# Altium schematic symbol library kmilo17pet-TI_LDO_400_7500.SchLib: 1409 symbols (part 13 of 60)
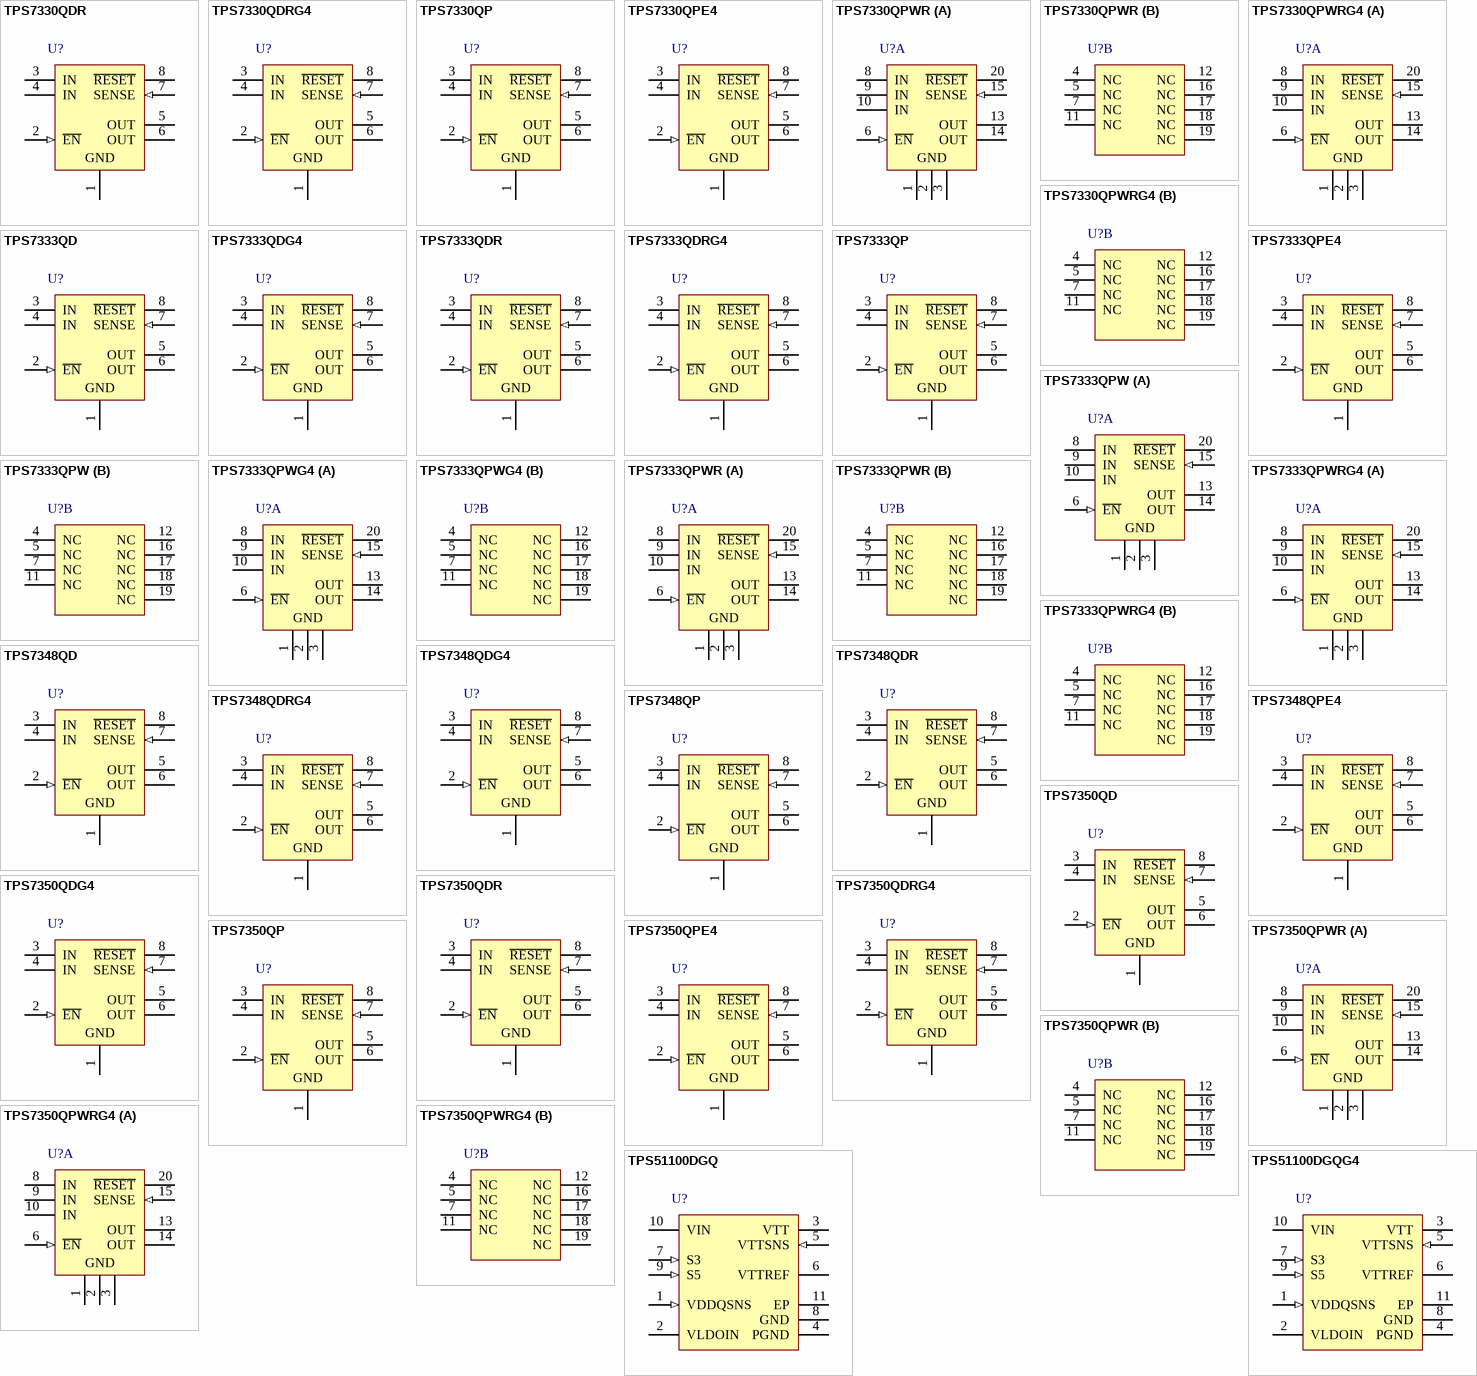
[diagram p62: symbols TPS7330QDR to TPS51100DGQG4]

## TPS7333QDRG4
designator U?
Single Output LDO, 500 mA, Fixed 3.3 V Output, 3.77 to 10 V Input, with Integrated SVS, 8-pin SOIC (D), -40 to 125 degC, Green (RoHS & no Sb/Br); Manufacturer: Texas Instruments; PartNumber: TPS7333QDRG4; Accuracy(%): 2; Fixed Output Options(V): 3.3; Iout(Max)(A): 0.5; Iq(Typ)(mA): 0.3; SubFamily: Single Channel LDO; Vdo(Typ)(mV): 270; Vin(Max)(V): 10; Vin(Min)(V): 3.77; DatasheetVersion: SLVS124F; PackageVersion: 4040047-3/M; PackageReference: D8; PackageDescription: 8-Pin Plastic Small Outline, Body 4.9 x 3.9 mm, Pitch 1.27 mm; Supplier 1: Digi-Key; Supplier Part Number 1: TPS7333QDRG4-ND; Supplier 2: Newark; Supplier Part Number 2: 28K5747; Supplier 3: Mouser; Supplier Part Number 3: 595-TPS7333QDRG4; Eco-Plan: Green (RoHS & no Sb/Br); Vout Adj(Max)(V): 3.3; Vout Adj(Min)(V): 3.3; Mounting Technology: Surface Mount; Code_JEDEC: MS-012; ComponentLink1Description: Manufacturer URL; ComponentLink1URL: http://www.ti.com/; ComponentLink2Description: Datasheet; ComponentLink2URL: http://www.ti.com/general/docs/lit/getliterature.tsp?genericPartNumber=TPS7333&fileType=pdf; ComponentLink3Description: Package Specification; ComponentLink3URL: http://www.ti.com/litv/pdf/msoi002j
footprint TI-D8_N (SOIC, 8-Leads, Body 4.9x3.9mm, Pitch 1.27mm, IPC Medium Density)
footprint TI-D8_L (SOIC, 8-Leads, Body 4.9x3.9mm, Pitch 1.27mm, IPC High Density)
footprint TI-D8_M (SOIC, 8-Leads, Body 4.9x3.9mm, Pitch 1.27mm, IPC Low Density)
pins: 1 GND (power), 2 ~{EN} (in), 3 IN (power), 4 IN (power), 5 OUT (power), 6 OUT (power), 7 SENSE (in), 8 ~{RESET} (oc)

## TPS7333QP
designator U?
Single Output LDO, 500 mA, Fixed 3.3 V Output, 3.77 to 10 V Input, with Integrated SVS, 8-pin PDIP (P), -40 to 125 degC, Pb-Free (RoHS); Manufacturer: Texas Instruments; PartNumber: TPS7333QP; Accuracy(%): 2; Fixed Output Options(V): 3.3; Iout(Max)(A): 0.5; Iq(Typ)(mA): 0.3; SubFamily: Single Channel LDO; Vdo(Typ)(mV): 270; Vin(Max)(V): 10; Vin(Min)(V): 3.77; DatasheetVersion: SLVS124F; PackageVersion: 4040082/E; PackageReference: P8; PackageDescription: 8-Pin Plastic In-Line, Body 9.59 x 6.35 mm, 2.54 mm Pitch; Supplier 1: Digi-Key; Supplier Part Number 1: 296-2663-5-ND; Supplier 2: Newark; Supplier Part Number 2: 35K1340; Supplier 3: Mouser; Supplier Part Number 3: 595-TPS7333QP; Eco-Plan: Pb-Free (RoHS); Vout Adj(Max)(V): 3.3; Vout Adj(Min)(V): 3.3; Mounting Technology: Through Hole; Code_JEDEC: MS-001; ComponentLink1Description: Manufacturer URL; ComponentLink1URL: http://www.ti.com/; ComponentLink2Description: Datasheet; ComponentLink2URL: http://www.ti.com/general/docs/lit/getliterature.tsp?genericPartNumber=TPS7333&fileType=pdf; ComponentLink3Description: Package Specification; ComponentLink3URL: http://www.ti.com/litv/pdf/mpdi001b
footprint TI-P8 (DIP, 8-Leads, Body 9.59x6.35mm, Pitch 2.54mm)
pins: 1 GND (power), 2 ~{EN} (in), 3 IN (power), 4 IN (power), 5 OUT (power), 6 OUT (power), 7 SENSE (in), 8 ~{RESET} (hiz)

## TPS7333QPE4
designator U?
Single Output LDO, 500 mA, Fixed 3.3 V Output, 3.77 to 10 V Input, with Integrated SVS, 8-pin PDIP (P), -40 to 125 degC, Pb-Free (RoHS); Manufacturer: Texas Instruments; PartNumber: TPS7333QPE4; Accuracy(%): 2; Fixed Output Options(V): 3.3; Iout(Max)(A): 0.5; Iq(Typ)(mA): 0.3; SubFamily: Single Channel LDO; Vdo(Typ)(mV): 270; Vin(Max)(V): 10; Vin(Min)(V): 3.77; DatasheetVersion: SLVS124F; PackageVersion: 4040082/E; PackageReference: P8; PackageDescription: 8-Pin Plastic In-Line, Body 9.59 x 6.35 mm, 2.54 mm Pitch; Supplier 1: Digi-Key; Supplier Part Number 1: TPS7333QPE4-ND; Supplier 2: Newark; Supplier Part Number 2: 24K6125; Supplier 3: Mouser; Supplier Part Number 3: 595-TPS7333QPE4; Eco-Plan: Pb-Free (RoHS); Vout Adj(Max)(V): 3.3; Vout Adj(Min)(V): 3.3; Mounting Technology: Through Hole; Code_JEDEC: MS-001; ComponentLink1Description: Manufacturer URL; ComponentLink1URL: http://www.ti.com/; ComponentLink2Description: Datasheet; ComponentLink2URL: http://www.ti.com/general/docs/lit/getliterature.tsp?genericPartNumber=TPS7333&fileType=pdf; ComponentLink3Description: Package Specification; ComponentLink3URL: http://www.ti.com/litv/pdf/mpdi001b
footprint TI-P8 (DIP, 8-Leads, Body 9.59x6.35mm, Pitch 2.54mm)
pins: 1 GND (power), 2 ~{EN} (in), 3 IN (power), 4 IN (power), 5 OUT (power), 6 OUT (power), 7 SENSE (in), 8 ~{RESET} (hiz)

## TPS7333QPW
designator U?
Single Output LDO, 500 mA, Fixed 3.3 V Output, 3.77 to 10 V Input, with Integrated SVS, 20-pin TSSOP (PW), -40 to 125 degC, Green (RoHS & no Sb/Br); Manufacturer: Texas Instruments; PartNumber: TPS7333QPW; Accuracy(%): 2; Fixed Output Options(V): 3.3; Iout(Max)(A): 0.5; Iq(Typ)(mA): 0.3; SubFamily: Single Channel LDO; Vdo(Typ)(mV): 270; Vin(Max)(V): 10; Vin(Min)(V): 3.77; DatasheetVersion: SLVS124F; PackageVersion: 4040064-5/G; PackageReference: PW20; PackageDescription: 20-Pin Plastic Small Outline, Body 6.5 x 4.4 mm, 0.65 mm Pitch; Supplier 1: Digi-Key; Supplier Part Number 1: 296-34647-5-ND; Supplier 2: Mouser; Supplier Part Number 2: 595-TPS7333QPW; Eco-Plan: Green (RoHS & no Sb/Br); Vout Adj(Max)(V): 3.3; Vout Adj(Min)(V): 3.3; Mounting Technology: Surface Mount; Code_JEDEC: MO-153; ComponentLink1Description: Manufacturer URL; ComponentLink1URL: http://www.ti.com/; ComponentLink2Description: Datasheet; ComponentLink2URL: http://www.ti.com/general/docs/lit/getliterature.tsp?genericPartNumber=TPS7333&fileType=pdf; ComponentLink3Description: Package Specification; ComponentLink3URL: http://www.ti.com.cn/cn/lit/ml/mpds362/mpds362.pdf
footprint TI-PW20_N (SOP, 20-Leads, Body 6.5x4.4mm, Pitch 0.65mm, IPC Medium Density)
footprint TI-PW20_L (SOP, 20-Leads, Body 6.5x4.4mm, Pitch 0.65mm, IPC High Density)
footprint TI-PW20_M (SOP, 20-Leads, Body 6.5x4.4mm, Pitch 0.65mm, IPC Low Density)
part A pins: 1 GND (power), 2 GND (power), 3 GND (power), 6 ~{EN} (in), 8 IN (power), 9 IN (power), 10 IN (power), 13 OUT (power), 14 OUT (power), 15 SENSE (in), 20 ~{RESET} (hiz)
part B pins: 4 NC, 5 NC, 7 NC, 11 NC, 12 NC, 16 NC, 17 NC, 18 NC, 19 NC

## TPS7333QPWG4
designator U?
Single Output LDO, 500 mA, Fixed 3.3 V Output, 3.77 to 10 V Input, with Integrated SVS, 20-pin TSSOP (PW), -40 to 125 degC, Green (RoHS & no Sb/Br); Manufacturer: Texas Instruments; PartNumber: TPS7333QPWG4; Accuracy(%): 2; Fixed Output Options(V): 3.3; Iout(Max)(A): 0.5; Iq(Typ)(mA): 0.3; SubFamily: Single Channel LDO; Vdo(Typ)(mV): 270; Vin(Max)(V): 10; Vin(Min)(V): 3.77; DatasheetVersion: SLVS124F; PackageVersion: 4040064-5/G; PackageReference: PW20; PackageDescription: 20-Pin Plastic Small Outline, Body 6.5 x 4.4 mm, 0.65 mm Pitch; Supplier 1: Digi-Key; Supplier Part Number 1: TPS7333QPWG4-ND; Supplier 2: Mouser; Supplier Part Number 2: 595-TPS7333QPWG4; Eco-Plan: Green (RoHS & no Sb/Br); Vout Adj(Max)(V): 3.3; Vout Adj(Min)(V): 3.3; Mounting Technology: Surface Mount; Code_JEDEC: MO-153; ComponentLink1Description: Manufacturer URL; ComponentLink1URL: http://www.ti.com/; ComponentLink2Description: Datasheet; ComponentLink2URL: http://www.ti.com/general/docs/lit/getliterature.tsp?genericPartNumber=TPS7333&fileType=pdf; ComponentLink3Description: Package Specification; ComponentLink3URL: http://www.ti.com.cn/cn/lit/ml/mpds362/mpds362.pdf
footprint TI-PW20_N (SOP, 20-Leads, Body 6.5x4.4mm, Pitch 0.65mm, IPC Medium Density)
footprint TI-PW20_L (SOP, 20-Leads, Body 6.5x4.4mm, Pitch 0.65mm, IPC High Density)
footprint TI-PW20_M (SOP, 20-Leads, Body 6.5x4.4mm, Pitch 0.65mm, IPC Low Density)
part A pins: 1 GND (power), 2 GND (power), 3 GND (power), 6 ~{EN} (in), 8 IN (power), 9 IN (power), 10 IN (power), 13 OUT (power), 14 OUT (power), 15 SENSE (in), 20 ~{RESET} (hiz)
part B pins: 4 NC, 5 NC, 7 NC, 11 NC, 12 NC, 16 NC, 17 NC, 18 NC, 19 NC

## TPS7333QPWR
designator U?
Single Output LDO, 500 mA, Fixed 3.3 V Output, 3.77 to 10 V Input, with Integrated SVS, 20-pin TSSOP (PW), -40 to 125 degC, Green (RoHS & no Sb/Br); Manufacturer: Texas Instruments; PartNumber: TPS7333QPWR; Accuracy(%): 2; Fixed Output Options(V): 3.3; Iout(Max)(A): 0.5; Iq(Typ)(mA): 0.3; SubFamily: Single Channel LDO; Vdo(Typ)(mV): 270; Vin(Max)(V): 10; Vin(Min)(V): 3.77; DatasheetVersion: SLVS124F; PackageVersion: 4040064-5/G; PackageReference: PW20; PackageDescription: 20-Pin Plastic Small Outline, Body 6.5 x 4.4 mm, 0.65 mm Pitch; Supplier 1: Digi-Key; Supplier Part Number 1: 296-8067-2-ND; Supplier 2: Digi-Key; Supplier Part Number 2: 296-8067-1-ND; Supplier 3: Digi-Key; Supplier Part Number 3: 296-8067-6-ND; Supplier 4: Mouser; Supplier Part Number 4: 595-TPS7333QPWR; Eco-Plan: Green (RoHS & no Sb/Br); Vout Adj(Max)(V): 3.3; Vout Adj(Min)(V): 3.3; Mounting Technology: Surface Mount; Code_JEDEC: MO-153; ComponentLink1Description: Manufacturer URL; ComponentLink1URL: http://www.ti.com/; ComponentLink2Description: Datasheet; ComponentLink2URL: http://www.ti.com/general/docs/lit/getliterature.tsp?genericPartNumber=TPS7333&fileType=pdf; ComponentLink3Description: Package Specification; ComponentLink3URL: http://www.ti.com.cn/cn/lit/ml/mpds362/mpds362.pdf
footprint TI-PW20_N (SOP, 20-Leads, Body 6.5x4.4mm, Pitch 0.65mm, IPC Medium Density)
footprint TI-PW20_L (SOP, 20-Leads, Body 6.5x4.4mm, Pitch 0.65mm, IPC High Density)
footprint TI-PW20_M (SOP, 20-Leads, Body 6.5x4.4mm, Pitch 0.65mm, IPC Low Density)
part A pins: 1 GND (power), 2 GND (power), 3 GND (power), 6 ~{EN} (in), 8 IN (power), 9 IN (power), 10 IN (power), 13 OUT (power), 14 OUT (power), 15 SENSE (in), 20 ~{RESET} (hiz)
part B pins: 4 NC, 5 NC, 7 NC, 11 NC, 12 NC, 16 NC, 17 NC, 18 NC, 19 NC

## TPS7333QPWRG4
designator U?
Single Output LDO, 500 mA, Fixed 3.3 V Output, 3.77 to 10 V Input, with Integrated SVS, 20-pin TSSOP (PW), -40 to 125 degC, Green (RoHS & no Sb/Br); Manufacturer: Texas Instruments; PartNumber: TPS7333QPWRG4; Accuracy(%): 2; Fixed Output Options(V): 3.3; Iout(Max)(A): 0.5; Iq(Typ)(mA): 0.3; SubFamily: Single Channel LDO; Vdo(Typ)(mV): 270; Vin(Max)(V): 10; Vin(Min)(V): 3.77; DatasheetVersion: SLVS124F; PackageVersion: 4040064-5/G; PackageReference: PW20; PackageDescription: 20-Pin Plastic Small Outline, Body 6.5 x 4.4 mm, 0.65 mm Pitch; Supplier 1: Digi-Key; Supplier Part Number 1: TPS7333QPWRG4-ND; Supplier 2: Mouser; Supplier Part Number 2: 595-TPS7333QPWRG4; Eco-Plan: Green (RoHS & no Sb/Br); Vout Adj(Max)(V): 3.3; Vout Adj(Min)(V): 3.3; Mounting Technology: Surface Mount; Code_JEDEC: MO-153; ComponentLink1Description: Manufacturer URL; ComponentLink1URL: http://www.ti.com/; ComponentLink2Description: Datasheet; ComponentLink2URL: http://www.ti.com/general/docs/lit/getliterature.tsp?genericPartNumber=TPS7333&fileType=pdf; ComponentLink3Description: Package Specification; ComponentLink3URL: http://www.ti.com.cn/cn/lit/ml/mpds362/mpds362.pdf
footprint TI-PW20_N (SOP, 20-Leads, Body 6.5x4.4mm, Pitch 0.65mm, IPC Medium Density)
footprint TI-PW20_L (SOP, 20-Leads, Body 6.5x4.4mm, Pitch 0.65mm, IPC High Density)
footprint TI-PW20_M (SOP, 20-Leads, Body 6.5x4.4mm, Pitch 0.65mm, IPC Low Density)
part A pins: 1 GND (power), 2 GND (power), 3 GND (power), 6 ~{EN} (in), 8 IN (power), 9 IN (power), 10 IN (power), 13 OUT (power), 14 OUT (power), 15 SENSE (in), 20 ~{RESET} (hiz)
part B pins: 4 NC, 5 NC, 7 NC, 11 NC, 12 NC, 16 NC, 17 NC, 18 NC, 19 NC

## TPS7348QD
designator U?
Single Output LDO, 500 mA, Fixed 4.85 V Output, 5.2 to 10 V Input, with Integrated SVS, 8-pin SOIC (D), -40 to 125 degC, Green (RoHS & no Sb/Br); Manufacturer: Texas Instruments; PartNumber: TPS7348QD; Fixed Output Options(V): 4.85; Iout(Max)(A): 0.5; Iq(Typ)(mA): 0.3; SubFamily: Single Channel LDO; Vdo(Typ)(mV): 270; Vin(Max)(V): 10; Vin(Min)(V): 5.2; Vout Adj(Max)(V): 4.8; DatasheetVersion: SLVS124F; PackageVersion: 4040047-3/M; PackageReference: D8; PackageDescription: 8-Pin Plastic Small Outline, Body 4.9 x 3.9 mm, Pitch 1.27 mm; Supplier 1: Digi-Key; Supplier Part Number 1: 296-8068-5-ND; Supplier 2: Mouser; Supplier Part Number 2: 595-TPS7348QD; Eco-Plan: Green (RoHS & no Sb/Br); Vout Adj(Min)(V): 4.8; Mounting Technology: Surface Mount; Code_JEDEC: MS-012; ComponentLink1Description: Manufacturer URL; ComponentLink1URL: http://www.ti.com/; ComponentLink2Description: Datasheet; ComponentLink2URL: http://www.ti.com/general/docs/lit/getliterature.tsp?genericPartNumber=TPS7348&fileType=pdf; ComponentLink3Description: Package Specification; ComponentLink3URL: http://www.ti.com/litv/pdf/msoi002j
footprint TI-D8_N (SOIC, 8-Leads, Body 4.9x3.9mm, Pitch 1.27mm, IPC Medium Density)
footprint TI-D8_L (SOIC, 8-Leads, Body 4.9x3.9mm, Pitch 1.27mm, IPC High Density)
footprint TI-D8_M (SOIC, 8-Leads, Body 4.9x3.9mm, Pitch 1.27mm, IPC Low Density)
pins: 1 GND (power), 2 ~{EN} (in), 3 IN (power), 4 IN (power), 5 OUT (power), 6 OUT (power), 7 SENSE (in), 8 ~{RESET} (hiz)

## TPS7348QDG4
designator U?
Single Output LDO, 500 mA, Fixed 4.85 V Output, 5.2 to 10 V Input, with Integrated SVS, 8-pin SOIC (D), -40 to 125 degC, Green (RoHS & no Sb/Br); Manufacturer: Texas Instruments; PartNumber: TPS7348QDG4; Fixed Output Options(V): 4.85; Iout(Max)(A): 0.5; Iq(Typ)(mA): 0.3; SubFamily: Single Channel LDO; Vdo(Typ)(mV): 270; Vin(Max)(V): 10; Vin(Min)(V): 5.2; Vout Adj(Max)(V): 4.8; DatasheetVersion: SLVS124F; PackageVersion: 4040047-3/M; PackageReference: D8; PackageDescription: 8-Pin Plastic Small Outline, Body 4.9 x 3.9 mm, Pitch 1.27 mm; Supplier 1: Digi-Key; Supplier Part Number 1: TPS7348QDG4-ND; Supplier 2: Newark; Supplier Part Number 2: 41M5909; Supplier 3: Mouser; Supplier Part Number 3: 595-TPS7348QDG4; Eco-Plan: Green (RoHS & no Sb/Br); Vout Adj(Min)(V): 4.8; Mounting Technology: Surface Mount; Code_JEDEC: MS-012; ComponentLink1Description: Manufacturer URL; ComponentLink1URL: http://www.ti.com/; ComponentLink2Description: Datasheet; ComponentLink2URL: http://www.ti.com/general/docs/lit/getliterature.tsp?genericPartNumber=TPS7348&fileType=pdf; ComponentLink3Description: Package Specification; ComponentLink3URL: http://www.ti.com/litv/pdf/msoi002j
footprint TI-D8_N (SOIC, 8-Leads, Body 4.9x3.9mm, Pitch 1.27mm, IPC Medium Density)
footprint TI-D8_L (SOIC, 8-Leads, Body 4.9x3.9mm, Pitch 1.27mm, IPC High Density)
footprint TI-D8_M (SOIC, 8-Leads, Body 4.9x3.9mm, Pitch 1.27mm, IPC Low Density)
pins: 1 GND (power), 2 ~{EN} (in), 3 IN (power), 4 IN (power), 5 OUT (power), 6 OUT (power), 7 SENSE (in), 8 ~{RESET} (hiz)

## TPS7348QDR
designator U?
Single Output LDO, 500 mA, Fixed 4.85 V Output, 5.2 to 10 V Input, with Integrated SVS, 8-pin SOIC (D), -40 to 125 degC, Green (RoHS & no Sb/Br); Manufacturer: Texas Instruments; PartNumber: TPS7348QDR; Fixed Output Options(V): 4.85; Iout(Max)(A): 0.5; Iq(Typ)(mA): 0.3; SubFamily: Single Channel LDO; Vdo(Typ)(mV): 270; Vin(Max)(V): 10; Vin(Min)(V): 5.2; Vout Adj(Max)(V): 4.8; DatasheetVersion: SLVS124F; PackageVersion: 4040047-3/M; PackageReference: D8; PackageDescription: 8-Pin Plastic Small Outline, Body 4.9 x 3.9 mm, Pitch 1.27 mm; Supplier 1: Digi-Key; Supplier Part Number 1: 296-8068-2-ND; Supplier 2: Digi-Key; Supplier Part Number 2: 296-8068-1-ND; Supplier 3: Digi-Key; Supplier Part Number 3: 296-8068-6-ND; Supplier 4: Mouser; Supplier Part Number 4: 595-TPS7348QDR; Eco-Plan: Green (RoHS & no Sb/Br); Vout Adj(Min)(V): 4.8; Mounting Technology: Surface Mount; Code_JEDEC: MS-012; ComponentLink1Description: Manufacturer URL; ComponentLink1URL: http://www.ti.com/; ComponentLink2Description: Datasheet; ComponentLink2URL: http://www.ti.com/general/docs/lit/getliterature.tsp?genericPartNumber=TPS7348&fileType=pdf; ComponentLink3Description: Package Specification; ComponentLink3URL: http://www.ti.com/litv/pdf/msoi002j
footprint TI-D8_N (SOIC, 8-Leads, Body 4.9x3.9mm, Pitch 1.27mm, IPC Medium Density)
footprint TI-D8_L (SOIC, 8-Leads, Body 4.9x3.9mm, Pitch 1.27mm, IPC High Density)
footprint TI-D8_M (SOIC, 8-Leads, Body 4.9x3.9mm, Pitch 1.27mm, IPC Low Density)
pins: 1 GND (power), 2 ~{EN} (in), 3 IN (power), 4 IN (power), 5 OUT (power), 6 OUT (power), 7 SENSE (in), 8 ~{RESET} (hiz)

## TPS7348QDRG4
designator U?
Single Output LDO, 500 mA, Fixed 4.85 V Output, 5.2 to 10 V Input, with Integrated SVS, 8-pin SOIC (D), -40 to 125 degC, Green (RoHS & no Sb/Br); Manufacturer: Texas Instruments; PartNumber: TPS7348QDRG4; Fixed Output Options(V): 4.85; Iout(Max)(A): 0.5; Iq(Typ)(mA): 0.3; SubFamily: Single Channel LDO; Vdo(Typ)(mV): 270; Vin(Max)(V): 10; Vin(Min)(V): 5.2; Vout Adj(Max)(V): 4.8; DatasheetVersion: SLVS124F; PackageVersion: 4040047-3/M; PackageReference: D8; PackageDescription: 8-Pin Plastic Small Outline, Body 4.9 x 3.9 mm, Pitch 1.27 mm; Supplier 1: Digi-Key; Supplier Part Number 1: TPS7348QDRG4-ND; Supplier 2: Mouser; Supplier Part Number 2: 595-TPS7348QDRG4; Eco-Plan: Green (RoHS & no Sb/Br); Vout Adj(Min)(V): 4.8; Mounting Technology: Surface Mount; Code_JEDEC: MS-012; ComponentLink1Description: Manufacturer URL; ComponentLink1URL: http://www.ti.com/; ComponentLink2Description: Datasheet; ComponentLink2URL: http://www.ti.com/general/docs/lit/getliterature.tsp?genericPartNumber=TPS7348&fileType=pdf; ComponentLink3Description: Package Specification; ComponentLink3URL: http://www.ti.com/litv/pdf/msoi002j
footprint TI-D8_N (SOIC, 8-Leads, Body 4.9x3.9mm, Pitch 1.27mm, IPC Medium Density)
footprint TI-D8_L (SOIC, 8-Leads, Body 4.9x3.9mm, Pitch 1.27mm, IPC High Density)
footprint TI-D8_M (SOIC, 8-Leads, Body 4.9x3.9mm, Pitch 1.27mm, IPC Low Density)
pins: 1 GND (power), 2 ~{EN} (in), 3 IN (power), 4 IN (power), 5 OUT (power), 6 OUT (power), 7 SENSE (in), 8 ~{RESET} (hiz)

## TPS7348QP
designator U?
Single Output LDO, 500 mA, Fixed 4.85 V Output, 5.2 to 10 V Input, with Integrated SVS, 8-pin PDIP (P), -40 to 125 degC, Pb-Free (RoHS); Manufacturer: Texas Instruments; PartNumber: TPS7348QP; Fixed Output Options(V): 4.85; Iout(Max)(A): 0.5; Iq(Typ)(mA): 0.3; SubFamily: Single Channel LDO; Vdo(Typ)(mV): 270; Vin(Max)(V): 10; Vin(Min)(V): 5.2; Vout Adj(Max)(V): 4.8; DatasheetVersion: SLVS124F; PackageVersion: 4040082/E; PackageReference: P8; PackageDescription: 8-Pin Plastic In-Line, Body 9.59 x 6.35 mm, 2.54 mm Pitch; Supplier 1: Digi-Key; Supplier Part Number 1: 296-2664-5-ND; Supplier 2: Mouser; Supplier Part Number 2: 595-TPS7348QP; Eco-Plan: Pb-Free (RoHS); Vout Adj(Min)(V): 4.8; Mounting Technology: Through Hole; Code_JEDEC: MS-001; ComponentLink1Description: Manufacturer URL; ComponentLink1URL: http://www.ti.com/; ComponentLink2Description: Datasheet; ComponentLink2URL: http://www.ti.com/general/docs/lit/getliterature.tsp?genericPartNumber=TPS7348&fileType=pdf; ComponentLink3Description: Package Specification; ComponentLink3URL: http://www.ti.com/litv/pdf/mpdi001b
footprint TI-P8 (DIP, 8-Leads, Body 9.59x6.35mm, Pitch 2.54mm)
pins: 1 GND (power), 2 ~{EN} (in), 3 IN (power), 4 IN (power), 5 OUT (power), 6 OUT (power), 7 SENSE (in), 8 ~{RESET} (hiz)

## TPS7348QPE4
designator U?
Single Output LDO, 500 mA, Fixed 4.85 V Output, 5.2 to 10 V Input, with Integrated SVS, 8-pin PDIP (P), -40 to 125 degC, Pb-Free (RoHS); Manufacturer: Texas Instruments; PartNumber: TPS7348QPE4; Fixed Output Options(V): 4.85; Iout(Max)(A): 0.5; Iq(Typ)(mA): 0.3; SubFamily: Single Channel LDO; Vdo(Typ)(mV): 270; Vin(Max)(V): 10; Vin(Min)(V): 5.2; Vout Adj(Max)(V): 4.8; DatasheetVersion: SLVS124F; PackageVersion: 4040082/E; PackageReference: P8; PackageDescription: 8-Pin Plastic In-Line, Body 9.59 x 6.35 mm, 2.54 mm Pitch; Supplier 1: Digi-Key; Supplier Part Number 1: TPS7348QPE4-ND; Supplier 2: Mouser; Supplier Part Number 2: 595-TPS7348QPE4; Eco-Plan: Pb-Free (RoHS); Vout Adj(Min)(V): 4.8; Mounting Technology: Through Hole; Code_JEDEC: MS-001; ComponentLink1Description: Manufacturer URL; ComponentLink1URL: http://www.ti.com/; ComponentLink2Description: Datasheet; ComponentLink2URL: http://www.ti.com/general/docs/lit/getliterature.tsp?genericPartNumber=TPS7348&fileType=pdf; ComponentLink3Description: Package Specification; ComponentLink3URL: http://www.ti.com/litv/pdf/mpdi001b
footprint TI-P8 (DIP, 8-Leads, Body 9.59x6.35mm, Pitch 2.54mm)
pins: 1 GND (power), 2 ~{EN} (in), 3 IN (power), 4 IN (power), 5 OUT (power), 6 OUT (power), 7 SENSE (in), 8 ~{RESET} (hiz)

## TPS7350QD
designator U?
Single Output LDO, 500 mA, Fixed 5 V Output, 5.33 to 10 V Input, with Integrated SVS, 8-pin SOIC (D), -40 to 125 degC, Green (RoHS & no Sb/Br); Manufacturer: Texas Instruments; PartNumber: TPS7350QD; Fixed Output Options(V): 5; Iout(Max)(A): 0.5; Iq(Typ)(mA): 0.3; SubFamily: Single Channel LDO; Vdo(Typ)(mV): 270; Vin(Max)(V): 10; Vin(Min)(V): 5.33; DatasheetVersion: SLVS124F; PackageVersion: 4040047-3/M; PackageReference: D8; PackageDescription: 8-Pin Plastic Small Outline, Body 4.9 x 3.9 mm, Pitch 1.27 mm; Supplier 1: Digi-Key; Supplier Part Number 1: 296-8069-5-ND; Supplier 2: Farnell; Supplier Part Number 2: 8461147; Supplier 3: Newark; Supplier Part Number 3: 38K8800; Supplier 4: Newark; Supplier Part Number 4: 52F2805; Supplier 5: Mouser; Supplier Part Number 5: 595-TPS7350QD; Eco-Plan: Green (RoHS & no Sb/Br); Vout Adj(Max)(V): 5; Vout Adj(Min)(V): 5; Mounting Technology: Surface Mount; Code_JEDEC: MS-012; ComponentLink1Description: Manufacturer URL; ComponentLink1URL: http://www.ti.com/; ComponentLink2Description: Datasheet; ComponentLink2URL: http://www.ti.com/general/docs/lit/getliterature.tsp?genericPartNumber=TPS7350&fileType=pdf; ComponentLink3Description: Package Specification; ComponentLink3URL: http://www.ti.com/litv/pdf/msoi002j
footprint TI-D8_N (SOIC, 8-Leads, Body 4.9x3.9mm, Pitch 1.27mm, IPC Medium Density)
footprint TI-D8_L (SOIC, 8-Leads, Body 4.9x3.9mm, Pitch 1.27mm, IPC High Density)
footprint TI-D8_M (SOIC, 8-Leads, Body 4.9x3.9mm, Pitch 1.27mm, IPC Low Density)
pins: 1 GND (power), 2 ~{EN} (in), 3 IN (power), 4 IN (power), 5 OUT (power), 6 OUT (power), 7 SENSE (in), 8 ~{RESET} (hiz)

## TPS7350QDG4
designator U?
Single Output LDO, 500 mA, Fixed 5 V Output, 5.33 to 10 V Input, with Integrated SVS, 8-pin SOIC (D), -40 to 125 degC, Green (RoHS & no Sb/Br); Manufacturer: Texas Instruments; PartNumber: TPS7350QDG4; Fixed Output Options(V): 5; Iout(Max)(A): 0.5; Iq(Typ)(mA): 0.3; SubFamily: Single Channel LDO; Vdo(Typ)(mV): 270; Vin(Max)(V): 10; Vin(Min)(V): 5.33; DatasheetVersion: SLVS124F; PackageVersion: 4040047-3/M; PackageReference: D8; PackageDescription: 8-Pin Plastic Small Outline, Body 4.9 x 3.9 mm, Pitch 1.27 mm; Supplier 1: Digi-Key; Supplier Part Number 1: TPS7350QDG4-ND; Supplier 2: Mouser; Supplier Part Number 2: 595-TPS7350QDG4; Eco-Plan: Green (RoHS & no Sb/Br); Vout Adj(Max)(V): 5; Vout Adj(Min)(V): 5; Mounting Technology: Surface Mount; Code_JEDEC: MS-012; ComponentLink1Description: Manufacturer URL; ComponentLink1URL: http://www.ti.com/; ComponentLink2Description: Datasheet; ComponentLink2URL: http://www.ti.com/general/docs/lit/getliterature.tsp?genericPartNumber=TPS7350&fileType=pdf; ComponentLink3Description: Package Specification; ComponentLink3URL: http://www.ti.com/litv/pdf/msoi002j
footprint TI-D8_N (SOIC, 8-Leads, Body 4.9x3.9mm, Pitch 1.27mm, IPC Medium Density)
footprint TI-D8_L (SOIC, 8-Leads, Body 4.9x3.9mm, Pitch 1.27mm, IPC High Density)
footprint TI-D8_M (SOIC, 8-Leads, Body 4.9x3.9mm, Pitch 1.27mm, IPC Low Density)
pins: 1 GND (power), 2 ~{EN} (in), 3 IN (power), 4 IN (power), 5 OUT (power), 6 OUT (power), 7 SENSE (in), 8 ~{RESET} (hiz)

## TPS7350QDR
designator U?
Single Output LDO, 500 mA, Fixed 5 V Output, 5.33 to 10 V Input, with Integrated SVS, 8-pin SOIC (D), -40 to 125 degC, Green (RoHS & no Sb/Br); Manufacturer: Texas Instruments; PartNumber: TPS7350QDR; Fixed Output Options(V): 5; Iout(Max)(A): 0.5; Iq(Typ)(mA): 0.3; SubFamily: Single Channel LDO; Vdo(Typ)(mV): 270; Vin(Max)(V): 10; Vin(Min)(V): 5.33; DatasheetVersion: SLVS124F; PackageVersion: 4040047-3/M; PackageReference: D8; PackageDescription: 8-Pin Plastic Small Outline, Body 4.9 x 3.9 mm, Pitch 1.27 mm; Supplier 1: Digi-Key; Supplier Part Number 1: 296-29423-2-ND; Supplier 2: Digi-Key; Supplier Part Number 2: 296-29423-1-ND; Supplier 3: Digi-Key; Supplier Part Number 3: 296-29423-6-ND; Supplier 4: Mouser; Supplier Part Number 4: 595-TPS7350QDR; Eco-Plan: Green (RoHS & no Sb/Br); Vout Adj(Max)(V): 5; Vout Adj(Min)(V): 5; Mounting Technology: Surface Mount; Code_JEDEC: MS-012; ComponentLink1Description: Manufacturer URL; ComponentLink1URL: http://www.ti.com/; ComponentLink2Description: Datasheet; ComponentLink2URL: http://www.ti.com/general/docs/lit/getliterature.tsp?genericPartNumber=TPS7350&fileType=pdf; ComponentLink3Description: Package Specification; ComponentLink3URL: http://www.ti.com/litv/pdf/msoi002j
footprint TI-D8_N (SOIC, 8-Leads, Body 4.9x3.9mm, Pitch 1.27mm, IPC Medium Density)
footprint TI-D8_L (SOIC, 8-Leads, Body 4.9x3.9mm, Pitch 1.27mm, IPC High Density)
footprint TI-D8_M (SOIC, 8-Leads, Body 4.9x3.9mm, Pitch 1.27mm, IPC Low Density)
pins: 1 GND (power), 2 ~{EN} (in), 3 IN (power), 4 IN (power), 5 OUT (power), 6 OUT (power), 7 SENSE (in), 8 ~{RESET} (hiz)

## TPS7350QDRG4
designator U?
Single Output LDO, 500 mA, Fixed 5 V Output, 5.33 to 10 V Input, with Integrated SVS, 8-pin SOIC (D), -40 to 125 degC, Green (RoHS & no Sb/Br); Manufacturer: Texas Instruments; PartNumber: TPS7350QDRG4; Fixed Output Options(V): 5; Iout(Max)(A): 0.5; Iq(Typ)(mA): 0.3; SubFamily: Single Channel LDO; Vdo(Typ)(mV): 270; Vin(Max)(V): 10; Vin(Min)(V): 5.33; DatasheetVersion: SLVS124F; PackageVersion: 4040047-3/M; PackageReference: D8; PackageDescription: 8-Pin Plastic Small Outline, Body 4.9 x 3.9 mm, Pitch 1.27 mm; Supplier 1: Digi-Key; Supplier Part Number 1: TPS7350QDRG4-ND; Supplier 2: Mouser; Supplier Part Number 2: 595-TPS7350QDRG4; Eco-Plan: Green (RoHS & no Sb/Br); Vout Adj(Max)(V): 5; Vout Adj(Min)(V): 5; Mounting Technology: Surface Mount; Code_JEDEC: MS-012; ComponentLink1Description: Manufacturer URL; ComponentLink1URL: http://www.ti.com/; ComponentLink2Description: Datasheet; ComponentLink2URL: http://www.ti.com/general/docs/lit/getliterature.tsp?genericPartNumber=TPS7350&fileType=pdf; ComponentLink3Description: Package Specification; ComponentLink3URL: http://www.ti.com/litv/pdf/msoi002j
footprint TI-D8_N (SOIC, 8-Leads, Body 4.9x3.9mm, Pitch 1.27mm, IPC Medium Density)
footprint TI-D8_L (SOIC, 8-Leads, Body 4.9x3.9mm, Pitch 1.27mm, IPC High Density)
footprint TI-D8_M (SOIC, 8-Leads, Body 4.9x3.9mm, Pitch 1.27mm, IPC Low Density)
pins: 1 GND (power), 2 ~{EN} (in), 3 IN (power), 4 IN (power), 5 OUT (power), 6 OUT (power), 7 SENSE (in), 8 ~{RESET} (hiz)

## TPS7350QP
designator U?
Single Output LDO, 500 mA, Fixed 5 V Output, 5.33 to 10 V Input, with Integrated SVS, 8-pin PDIP (P), -40 to 125 degC, Pb-Free (RoHS); Manufacturer: Texas Instruments; PartNumber: TPS7350QP; Fixed Output Options(V): 5; Iout(Max)(A): 0.5; Iq(Typ)(mA): 0.3; SubFamily: Single Channel LDO; Vdo(Typ)(mV): 270; Vin(Max)(V): 10; Vin(Min)(V): 5.33; DatasheetVersion: SLVS124F; PackageVersion: 4040082/E; PackageReference: P8; PackageDescription: 8-Pin Plastic In-Line, Body 9.59 x 6.35 mm, 2.54 mm Pitch; Supplier 1: Digi-Key; Supplier Part Number 1: 296-2665-5-ND; Supplier 2: Newark; Supplier Part Number 2: 35C2225; Supplier 3: Mouser; Supplier Part Number 3: 595-TPS7350QP; Eco-Plan: Pb-Free (RoHS); Vout Adj(Max)(V): 5; Vout Adj(Min)(V): 5; Mounting Technology: Through Hole; Code_JEDEC: MS-001; ComponentLink1Description: Manufacturer URL; ComponentLink1URL: http://www.ti.com/; ComponentLink2Description: Datasheet; ComponentLink2URL: http://www.ti.com/general/docs/lit/getliterature.tsp?genericPartNumber=TPS7350&fileType=pdf; ComponentLink3Description: Package Specification; ComponentLink3URL: http://www.ti.com/litv/pdf/mpdi001b
footprint TI-P8 (DIP, 8-Leads, Body 9.59x6.35mm, Pitch 2.54mm)
pins: 1 GND (power), 2 ~{EN} (in), 3 IN (power), 4 IN (power), 5 OUT (power), 6 OUT (power), 7 SENSE (in), 8 ~{RESET} (oc)

## TPS7350QPE4
designator U?
Single Output LDO, 500 mA, Fixed 5 V Output, 5.33 to 10 V Input, with Integrated SVS, 8-pin PDIP (P), -40 to 125 degC, Pb-Free (RoHS); Manufacturer: Texas Instruments; PartNumber: TPS7350QPE4; Fixed Output Options(V): 5; Iout(Max)(A): 0.5; Iq(Typ)(mA): 0.3; SubFamily: Single Channel LDO; Vdo(Typ)(mV): 270; Vin(Max)(V): 10; Vin(Min)(V): 5.33; DatasheetVersion: SLVS124F; PackageVersion: 4040082/E; PackageReference: P8; PackageDescription: 8-Pin Plastic In-Line, Body 9.59 x 6.35 mm, 2.54 mm Pitch; Supplier 1: Digi-Key; Supplier Part Number 1: TPS7350QPE4-ND; Supplier 2: Mouser; Supplier Part Number 2: 595-TPS7350QPE4; Eco-Plan: Pb-Free (RoHS); Vout Adj(Max)(V): 5; Vout Adj(Min)(V): 5; Mounting Technology: Through Hole; Code_JEDEC: MS-001; ComponentLink1Description: Manufacturer URL; ComponentLink1URL: http://www.ti.com/; ComponentLink2Description: Datasheet; ComponentLink2URL: http://www.ti.com/general/docs/lit/getliterature.tsp?genericPartNumber=TPS7350&fileType=pdf; ComponentLink3Description: Package Specification; ComponentLink3URL: http://www.ti.com/litv/pdf/mpdi001b
footprint TI-P8 (DIP, 8-Leads, Body 9.59x6.35mm, Pitch 2.54mm)
pins: 1 GND (power), 2 ~{EN} (in), 3 IN (power), 4 IN (power), 5 OUT (power), 6 OUT (power), 7 SENSE (in), 8 ~{RESET} (oc)

## TPS7350QPWR
designator U?
Single Output LDO, 500 mA, Fixed 5 V Output, 5.33 to 10 V Input, with Integrated SVS, 20-pin TSSOP (PW), -40 to 125 degC, Green (RoHS & no Sb/Br); Manufacturer: Texas Instruments; PartNumber: TPS7350QPWR; Fixed Output Options(V): 5; Iout(Max)(A): 0.5; Iq(Typ)(mA): 0.3; SubFamily: Single Channel LDO; Vdo(Typ)(mV): 270; Vin(Max)(V): 10; Vin(Min)(V): 5.33; DatasheetVersion: SLVS124F; PackageVersion: 4040064-5/G; PackageReference: PW20; PackageDescription: 20-Pin Plastic Small Outline, Body 6.5 x 4.4 mm, 0.65 mm Pitch; Supplier 1: Digi-Key; Supplier Part Number 1: 296-8070-2-ND; Supplier 2: Digi-Key; Supplier Part Number 2: 296-8070-1-ND; Supplier 3: Digi-Key; Supplier Part Number 3: 296-8070-6-ND; Supplier 4: Newark; Supplier Part Number 4: 77C0885; Supplier 5: Mouser; Supplier Part Number 5: 595-TPS7350QPWR; Eco-Plan: Green (RoHS & no Sb/Br); Vout Adj(Max)(V): 5; Vout Adj(Min)(V): 5; Mounting Technology: Surface Mount; Code_JEDEC: MO-153; ComponentLink1Description: Manufacturer URL; ComponentLink1URL: http://www.ti.com/; ComponentLink2Description: Datasheet; ComponentLink2URL: http://www.ti.com/general/docs/lit/getliterature.tsp?genericPartNumber=TPS7350&fileType=pdf; ComponentLink3Description: Package Specification; ComponentLink3URL: http://www.ti.com.cn/cn/lit/ml/mpds362/mpds362.pdf
footprint TI-PW20_N (SOP, 20-Leads, Body 6.5x4.4mm, Pitch 0.65mm, IPC Medium Density)
footprint TI-PW20_L (SOP, 20-Leads, Body 6.5x4.4mm, Pitch 0.65mm, IPC High Density)
footprint TI-PW20_M (SOP, 20-Leads, Body 6.5x4.4mm, Pitch 0.65mm, IPC Low Density)
part A pins: 1 GND (power), 2 GND (power), 3 GND (power), 6 ~{EN} (in), 8 IN (power), 9 IN (power), 10 IN (power), 13 OUT (power), 14 OUT (power), 15 SENSE (in), 20 ~{RESET} (hiz)
part B pins: 4 NC, 5 NC, 7 NC, 11 NC, 12 NC, 16 NC, 17 NC, 18 NC, 19 NC

## TPS7350QPWRG4
designator U?
Single Output LDO, 500 mA, Fixed 5 V Output, 5.33 to 10 V Input, with Integrated SVS, 20-pin TSSOP (PW), -40 to 125 degC, Green (RoHS & no Sb/Br); Manufacturer: Texas Instruments; PartNumber: TPS7350QPWRG4; Fixed Output Options(V): 5; Iout(Max)(A): 0.5; Iq(Typ)(mA): 0.3; SubFamily: Single Channel LDO; Vdo(Typ)(mV): 270; Vin(Max)(V): 10; Vin(Min)(V): 5.33; DatasheetVersion: SLVS124F; PackageVersion: 4040064-5/G; PackageReference: PW20; PackageDescription: 20-Pin Plastic Small Outline, Body 6.5 x 4.4 mm, 0.65 mm Pitch; Supplier 1: Digi-Key; Supplier Part Number 1: TPS7350QPWRG4-ND; Supplier 2: Mouser; Supplier Part Number 2: 595-TPS7350QPWRG4; Eco-Plan: Green (RoHS & no Sb/Br); Vout Adj(Max)(V): 5; Vout Adj(Min)(V): 5; Mounting Technology: Surface Mount; Code_JEDEC: MO-153; ComponentLink1Description: Manufacturer URL; ComponentLink1URL: http://www.ti.com/; ComponentLink2Description: Datasheet; ComponentLink2URL: http://www.ti.com/general/docs/lit/getliterature.tsp?genericPartNumber=TPS7350&fileType=pdf; ComponentLink3Description: Package Specification; ComponentLink3URL: http://www.ti.com.cn/cn/lit/ml/mpds362/mpds362.pdf
footprint TI-PW20_N (SOP, 20-Leads, Body 6.5x4.4mm, Pitch 0.65mm, IPC Medium Density)
footprint TI-PW20_L (SOP, 20-Leads, Body 6.5x4.4mm, Pitch 0.65mm, IPC High Density)
footprint TI-PW20_M (SOP, 20-Leads, Body 6.5x4.4mm, Pitch 0.65mm, IPC Low Density)
part A pins: 1 GND (power), 2 GND (power), 3 GND (power), 6 ~{EN} (in), 8 IN (power), 9 IN (power), 10 IN (power), 13 OUT (power), 14 OUT (power), 15 SENSE (in), 20 ~{RESET} (hiz)
part B pins: 4 NC, 5 NC, 7 NC, 11 NC, 12 NC, 16 NC, 17 NC, 18 NC, 19 NC

## TPS51100DGQ
designator U?
Single Output LDO, 3 A, 4.75 to 5.25 V Input, with DDR Terminator, 10-pin MSOP (DGQ), -40 to 85 degC, Green (RoHS & no Sb/Br); Manufacturer: Texas Instruments; PartNumber: TPS51100DGQ; Iout(Max)(A): 3; Iq(Typ)(mA): 0.5; Rating: Catalog; SubFamily: Single Channel LDO; Vin(Max)(V): 5.25; Vin(Min)(V): 4.7; DatasheetVersion: SLUS600D; PackageVersion: 4073273/F; PackageReference: DGQ10-1675X1445TP; PackageDescription: 10-Pin Plastic Small Outline, Body 3 x 3 mm, Pitch 0.5 mm; Supplier 1: Digi-Key; Supplier Part Number 1: 296-17851-5-ND; Supplier 2: Farnell; Supplier Part Number 2: 1460797; Supplier 3: Newark; Supplier Part Number 3: 10J9766; Supplier 4: Mouser; Supplier Part Number 4: 595-TPS51100DGQ; Eco-Plan: Green (RoHS & no Sb/Br); Mounting Technology: Surface Mount; Code_JEDEC: MO-187; ComponentLink1Description: Manufacturer URL; ComponentLink1URL: http://www.ti.com/; ComponentLink2Description: Datasheet; ComponentLink2URL: http://www.ti.com/general/docs/lit/getliterature.tsp?genericPartNumber=TPS51100&fileType=pdf; ComponentLink3Description: Package Specification; ComponentLink3URL: http://www.ti.com/litv/pdf/mpds043e; ComponentLink4Description: URL Link1; ComponentLink4URL: Samples URL:http://www.ti.com/product/tps51100#samples
footprint TI-DGQ10-1675X1445TP_N (SOP, 10-Leads, Body 3.0x3.0mm, Pitch 0.5mm, Thermal Pad 1.675X1.445mm, IPC Medium Density)
footprint TI-DGQ10-1675X1445TP_L (SOP, 10-Leads, Body 3.0x3.0mm, Pitch 0.5mm, Thermal Pad 1.675X1.445mm, IPC High Density)
footprint TI-DGQ10-1675X1445TP_M (SOP, 10-Leads, Body 3.0x3.0mm, Pitch 0.5mm, Thermal Pad 1.675X1.445mm, IPC Low Density)
pins: 1 VDDQSNS (in) "VDDQ sense input", 2 VLDOIN (power) "Power supply for the VTT LDO and VTTREF output stage", 3 VTT (power) "Power output for the VTT LDO", 4 PGND (power) "Power ground output for the VTT LDO", 5 VTTSNS (in) "Voltage sense input for the VTT LDO. Connect to plus terminal of the output capacitor.", 6 VTTREF "VTT reference output. Connect to GND through 0.1-uF ceramic capacitor.", 7 S3 (in) "S3 signal input", 8 GND (power) "Signal ground. Connect to negative terminal of the output capacitor", 9 S5 (in) "S5 signal input", 10 VIN (power) "5-V power supply", 11 EP (power) "Thermal pad"

## TPS51100DGQG4
designator U?
Single Output LDO, 3 A, 4.75 to 5.25 V Input, with DDR Terminator, 10-pin MSOP (DGQ), -40 to 85 degC, Green (RoHS & no Sb/Br); Manufacturer: Texas Instruments; PartNumber: TPS51100DGQG4; Iout(Max)(A): 3; Iq(Typ)(mA): 0.5; Rating: Catalog; SubFamily: Single Channel LDO; Vin(Max)(V): 5.25; Vin(Min)(V): 4.7; DatasheetVersion: SLUS600D; PackageVersion: 4073273/F; PackageReference: DGQ10-1675X1445TP; PackageDescription: 10-Pin Plastic Small Outline, Body 3 x 3 mm, Pitch 0.5 mm; Supplier 1: Digi-Key; Supplier Part Number 1: TPS51100DGQG4-ND; Supplier 2: Newark; Supplier Part Number 2: 24K5978; Supplier 3: Mouser; Supplier Part Number 3: 595-TPS51100DGQG4; Eco-Plan: Green (RoHS & no Sb/Br); Mounting Technology: Surface Mount; Code_JEDEC: MO-187; ComponentLink1Description: Manufacturer URL; ComponentLink1URL: http://www.ti.com/; ComponentLink2Description: Datasheet; ComponentLink2URL: http://www.ti.com/general/docs/lit/getliterature.tsp?genericPartNumber=TPS51100&fileType=pdf; ComponentLink3Description: Package Specification; ComponentLink3URL: http://www.ti.com/litv/pdf/mpds043e; ComponentLink4Description: URL Link1; ComponentLink4URL: Samples URL:http://www.ti.com/product/tps51100#samples
footprint TI-DGQ10-1675X1445TP_N (SOP, 10-Leads, Body 3.0x3.0mm, Pitch 0.5mm, Thermal Pad 1.675X1.445mm, IPC Medium Density)
footprint TI-DGQ10-1675X1445TP_L (SOP, 10-Leads, Body 3.0x3.0mm, Pitch 0.5mm, Thermal Pad 1.675X1.445mm, IPC High Density)
footprint TI-DGQ10-1675X1445TP_M (SOP, 10-Leads, Body 3.0x3.0mm, Pitch 0.5mm, Thermal Pad 1.675X1.445mm, IPC Low Density)
pins: 1 VDDQSNS (in) "VDDQ sense input", 2 VLDOIN (power) "Power supply for the VTT LDO and VTTREF output stage", 3 VTT (power) "Power output for the VTT LDO", 4 PGND (power) "Power ground output for the VTT LDO", 5 VTTSNS (in) "Voltage sense input for the VTT LDO. Connect to plus terminal of the output capacitor.", 6 VTTREF "VTT reference output. Connect to GND through 0.1-uF ceramic capacitor.", 7 S3 (in) "S3 signal input", 8 GND (power) "Signal ground. Connect to negative terminal of the output capacitor", 9 S5 (in) "S5 signal input", 10 VIN (power) "5-V power supply", 11 EP (power) "Thermal pad"

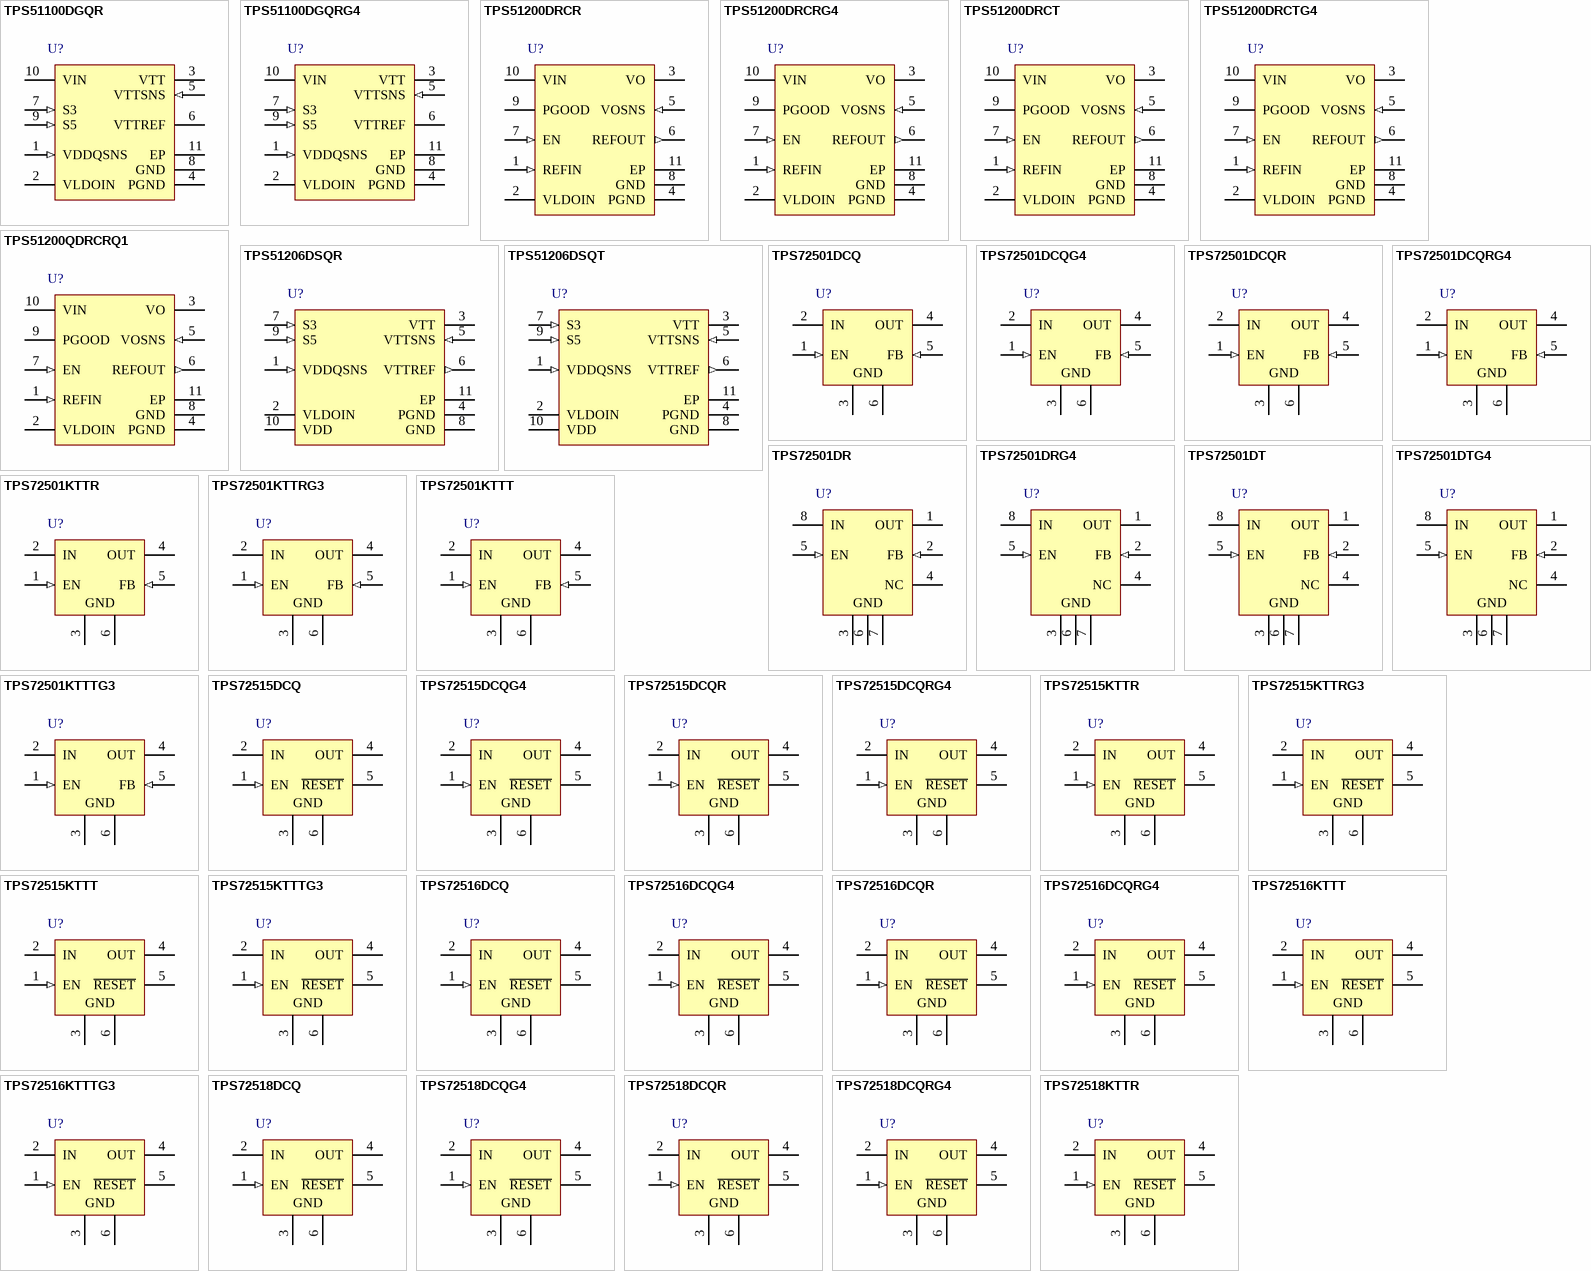
[diagram p9: symbols TPS51100DGQR to TPS72518KTTR]

## TPS51100DGQR
designator U?
Single Output LDO, 3 A, 4.75 to 5.25 V Input, with DDR Terminator, 10-pin MSOP (DGQ), -40 to 85 degC, Green (RoHS & no Sb/Br); Manufacturer: Texas Instruments; PartNumber: TPS51100DGQR; Iout(Max)(A): 3; Iq(Typ)(mA): 0.5; Rating: Catalog; SubFamily: Single Channel LDO; Vin(Max)(V): 5.25; Vin(Min)(V): 4.7; DatasheetVersion: SLUS600D; PackageVersion: 4073273/F; PackageReference: DGQ10-1675X1445TP; PackageDescription: 10-Pin Plastic Small Outline, Body 3 x 3 mm, Pitch 0.5 mm; Supplier 1: Digi-Key; Supplier Part Number 1: 296-23595-2-ND; Supplier 2: Digi-Key; Supplier Part Number 2: 296-23595-1-ND; Supplier 3: Digi-Key; Supplier Part Number 3: 296-23595-6-ND; Supplier 4: Farnell; Supplier Part Number 4: 1412388; Supplier 5: Newark; Supplier Part Number 5: 10J9767; Supplier 6: Mouser; Supplier Part Number 6: 595-TPS51100DGQR; Eco-Plan: Green (RoHS & no Sb/Br); Mounting Technology: Surface Mount; Code_JEDEC: MO-187; ComponentLink1Description: Manufacturer URL; ComponentLink1URL: http://www.ti.com/; ComponentLink2Description: Datasheet; ComponentLink2URL: http://www.ti.com/general/docs/lit/getliterature.tsp?genericPartNumber=TPS51100&fileType=pdf; ComponentLink3Description: Package Specification; ComponentLink3URL: http://www.ti.com/litv/pdf/mpds043e; ComponentLink4Description: URL Link1; ComponentLink4URL: Samples URL:http://www.ti.com/product/tps51100#samples
footprint TI-DGQ10-1675X1445TP_N (SOP, 10-Leads, Body 3.0x3.0mm, Pitch 0.5mm, Thermal Pad 1.675X1.445mm, IPC Medium Density)
footprint TI-DGQ10-1675X1445TP_L (SOP, 10-Leads, Body 3.0x3.0mm, Pitch 0.5mm, Thermal Pad 1.675X1.445mm, IPC High Density)
footprint TI-DGQ10-1675X1445TP_M (SOP, 10-Leads, Body 3.0x3.0mm, Pitch 0.5mm, Thermal Pad 1.675X1.445mm, IPC Low Density)
pins: 1 VDDQSNS (in) "VDDQ sense input", 2 VLDOIN (power) "Power supply for the VTT LDO and VTTREF output stage", 3 VTT (power) "Power output for the VTT LDO", 4 PGND (power) "Power ground output for the VTT LDO", 5 VTTSNS (in) "Voltage sense input for the VTT LDO. Connect to plus terminal of the output capacitor.", 6 VTTREF "VTT reference output. Connect to GND through 0.1-uF ceramic capacitor.", 7 S3 (in) "S3 signal input", 8 GND (power) "Signal ground. Connect to negative terminal of the output capacitor", 9 S5 (in) "S5 signal input", 10 VIN (power) "5-V power supply", 11 EP (power) "Thermal pad"

## TPS51100DGQRG4
designator U?
Single Output LDO, 3 A, 4.75 to 5.25 V Input, with DDR Terminator, 10-pin MSOP (DGQ), -40 to 85 degC, Green (RoHS & no Sb/Br); Manufacturer: Texas Instruments; PartNumber: TPS51100DGQRG4; Iout(Max)(A): 3; Iq(Typ)(mA): 0.5; Rating: Catalog; SubFamily: Single Channel LDO; Vin(Max)(V): 5.25; Vin(Min)(V): 4.7; DatasheetVersion: SLUS600D; PackageVersion: 4073273/F; PackageReference: DGQ10-1675X1445TP; PackageDescription: 10-Pin Plastic Small Outline, Body 3 x 3 mm, Pitch 0.5 mm; Supplier 1: Digi-Key; Supplier Part Number 1: TPS51100DGQRG4-ND; Supplier 2: Newark; Supplier Part Number 2: 65J6899; Supplier 3: Mouser; Supplier Part Number 3: 595-TPS51100DGQRG4; Eco-Plan: Green (RoHS & no Sb/Br); Mounting Technology: Surface Mount; Code_JEDEC: MO-187; ComponentLink1Description: Manufacturer URL; ComponentLink1URL: http://www.ti.com/; ComponentLink2Description: Datasheet; ComponentLink2URL: http://www.ti.com/general/docs/lit/getliterature.tsp?genericPartNumber=TPS51100&fileType=pdf; ComponentLink3Description: Package Specification; ComponentLink3URL: http://www.ti.com/litv/pdf/mpds043e; ComponentLink4Description: URL Link1; ComponentLink4URL: Samples URL:http://www.ti.com/product/tps51100#samples
footprint TI-DGQ10-1675X1445TP_N (SOP, 10-Leads, Body 3.0x3.0mm, Pitch 0.5mm, Thermal Pad 1.675X1.445mm, IPC Medium Density)
footprint TI-DGQ10-1675X1445TP_L (SOP, 10-Leads, Body 3.0x3.0mm, Pitch 0.5mm, Thermal Pad 1.675X1.445mm, IPC High Density)
footprint TI-DGQ10-1675X1445TP_M (SOP, 10-Leads, Body 3.0x3.0mm, Pitch 0.5mm, Thermal Pad 1.675X1.445mm, IPC Low Density)
pins: 1 VDDQSNS (in) "VDDQ sense input", 2 VLDOIN (power) "Power supply for the VTT LDO and VTTREF output stage", 3 VTT (power) "Power output for the VTT LDO", 4 PGND (power) "Power ground output for the VTT LDO", 5 VTTSNS (in) "Voltage sense input for the VTT LDO. Connect to plus terminal of the output capacitor.", 6 VTTREF "VTT reference output. Connect to GND through 0.1-uF ceramic capacitor.", 7 S3 (in) "S3 signal input", 8 GND (power) "Signal ground. Connect to negative terminal of the output capacitor", 9 S5 (in) "S5 signal input", 10 VIN (power) "5-V power supply", 11 EP (power) "Thermal pad"

## TPS51200DRCR
designator U?
Single Output LDO, 3 A, 2.375 to 3.5 V Input, with DDR Termination, 10-pin SON (DRC), -40 to 85 degC, Green (RoHS & no Sb/Br); Manufacturer: Texas Instruments; PartNumber: TPS51200DRCR; Iout(Max)(A): 3; Iq(Typ)(mA): 0.5; Power Good: TRUE; Rating: Catalog; SubFamily: Single Channel LDO; Vin(Max)(V): 3.5; Vin(Min)(V): 2.3; DatasheetVersion: SLUS812; PackageVersion: 4204102-3/L; PackageReference: DRC10-2400X1650TP; PackageDescription: 10-Pin Plastic Small Outline, Body 3 x 3 mm, Pitch 0.5 mm; Supplier 1: Digi-Key; Supplier Part Number 1: 296-26978-2-ND; Supplier 2: Digi-Key; Supplier Part Number 2: 296-26978-1-ND; Supplier 3: Digi-Key; Supplier Part Number 3: 296-26978-6-ND; Supplier 4: Farnell; Supplier Part Number 4: 2126004; Supplier 5: Newark; Supplier Part Number 5: 94T5094; Supplier 6: Newark; Supplier Part Number 6: 11N9832; Supplier 7: Mouser; Supplier Part Number 7: 595-TPS51200DRCR; Eco-Plan: Green (RoHS & no Sb/Br); Mounting Technology: Surface Mount; ComponentLink1Description: Manufacturer URL; ComponentLink1URL: http://www.ti.com/; ComponentLink2Description: Datasheet; ComponentLink2URL: http://www.ti.com/general/docs/lit/getliterature.tsp?genericPartNumber=TPS51200&fileType=pdf; ComponentLink3Description: Package Specification; ComponentLink3URL: http://www.ti.com/litv/pdf/mpds117k; ComponentLink4Description: URL Link1; ComponentLink4URL: Samples URL:http://www.ti.com/product/tps51200#samples
footprint TI-DRC10-2400X1650TP_V (SON, 10-Leads, Body 3x3mm, Pitch 0.5mm, Thermal Pad 3x1.65mm)
pins: 1 REFIN (in) "Reference input", 2 VLDOIN (power) "Supply voltage for the LDO", 3 VO (power) "Power output for the LDO", 4 PGND (power) "Power ground output for the LDO", 5 VOSNS (in) "Voltage sense output for the LDO. Connect to positive terminal of the output capacitor or the load.", 6 REFOUT (out) "Reference output. Connect to GND through 0.1-uF ceramic capacitor.", 7 EN (in) "For DDR VTT application, connect EN to SLP_S3. For any other application(s), use EN as the ON/OFF function.", 8 GND (power) "Ground.Signal ground. Connect to negative terminal of the output capacitor.", 9 PGOOD (oc) "PGOOD output. Indicates regulation.", 10 VIN (power) "2.5-V or 3.3-V power supply A ceramic decoupling capacitor with a value between 1-uF and 4.7-uF is required.", 11 EP (power) "Exposed thermal pad"

## TPS51200DRCRG4
designator U?
Single Output LDO, 3 A, 2.375 to 3.5 V Input, with DDR Termination, 10-pin SON (DRC), -40 to 85 degC, Green (RoHS & no Sb/Br); Manufacturer: Texas Instruments; PartNumber: TPS51200DRCRG4; Iout(Max)(A): 3; Iq(Typ)(mA): 0.5; Power Good: TRUE; Rating: Catalog; SubFamily: Single Channel LDO; Vin(Max)(V): 3.5; Vin(Min)(V): 2.3; DatasheetVersion: SLUS812; PackageVersion: 4204102-3/L; PackageReference: DRC10-2400X1650TP; PackageDescription: 10-Pin Plastic Small Outline, Body 3 x 3 mm, Pitch 0.5 mm; Supplier 1: Digi-Key; Supplier Part Number 1: TPS51200DRCRG4-ND; Supplier 2: Newark; Supplier Part Number 2: 03P5191; Supplier 3: Mouser; Supplier Part Number 3: 595-TPS51200DRCRG4; Eco-Plan: Green (RoHS & no Sb/Br); Mounting Technology: Surface Mount; ComponentLink1Description: Manufacturer URL; ComponentLink1URL: http://www.ti.com/; ComponentLink2Description: Datasheet; ComponentLink2URL: http://www.ti.com/general/docs/lit/getliterature.tsp?genericPartNumber=TPS51200&fileType=pdf; ComponentLink3Description: Package Specification; ComponentLink3URL: http://www.ti.com/litv/pdf/mpds117k; ComponentLink4Description: URL Link1; ComponentLink4URL: Samples URL:http://www.ti.com/product/tps51200#samples
footprint TI-DRC10-2400X1650TP_V (SON, 10-Leads, Body 3x3mm, Pitch 0.5mm, Thermal Pad 3x1.65mm)
pins: 1 REFIN (in) "Reference input", 2 VLDOIN (power) "Supply voltage for the LDO", 3 VO (power) "Power output for the LDO", 4 PGND (power) "Power ground output for the LDO", 5 VOSNS (in) "Voltage sense output for the LDO. Connect to positive terminal of the output capacitor or the load.", 6 REFOUT (out) "Reference output. Connect to GND through 0.1-uF ceramic capacitor.", 7 EN (in) "For DDR VTT application, connect EN to SLP_S3. For any other application(s), use EN as the ON/OFF function.", 8 GND (power) "Ground.Signal ground. Connect to negative terminal of the output capacitor.", 9 PGOOD (oc) "PGOOD output. Indicates regulation.", 10 VIN (power) "2.5-V or 3.3-V power supply A ceramic decoupling capacitor with a value between 1-uF and 4.7-uF is required.", 11 EP (power) "Exposed thermal pad"

## TPS51200DRCT
designator U?
Single Output LDO, 3 A, 2.375 to 3.5 V Input, with DDR Termination, 10-pin SON (DRC), -40 to 85 degC, Green (RoHS & no Sb/Br); Manufacturer: Texas Instruments; PartNumber: TPS51200DRCT; Iout(Max)(A): 3; Iq(Typ)(mA): 0.5; Power Good: TRUE; Rating: Catalog; SubFamily: Single Channel LDO; Vin(Max)(V): 3.5; Vin(Min)(V): 2.3; DatasheetVersion: SLUS812; PackageVersion: 4204102-3/L; PackageReference: DRC10-2400X1650TP; PackageDescription: 10-Pin Plastic Small Outline, Body 3 x 3 mm, Pitch 0.5 mm; Supplier 1: Digi-Key; Supplier Part Number 1: 296-23830-2-ND; Supplier 2: Digi-Key; Supplier Part Number 2: 296-23830-1-ND; Supplier 3: Digi-Key; Supplier Part Number 3: 296-23830-6-ND; Supplier 4: Farnell; Supplier Part Number 4: 1903398; Supplier 5: Newark; Supplier Part Number 5: 01P3287; Supplier 6: Newark; Supplier Part Number 6: 11N9833; Supplier 7: Mouser; Supplier Part Number 7: 595-TPS51200DRCT; Eco-Plan: Green (RoHS & no Sb/Br); Mounting Technology: Surface Mount; ComponentLink1Description: Manufacturer URL; ComponentLink1URL: http://www.ti.com/; ComponentLink2Description: Datasheet; ComponentLink2URL: http://www.ti.com/general/docs/lit/getliterature.tsp?genericPartNumber=TPS51200&fileType=pdf; ComponentLink3Description: Package Specification; ComponentLink3URL: http://www.ti.com/litv/pdf/mpds117k; ComponentLink4Description: URL Link1; ComponentLink4URL: Samples URL:http://www.ti.com/product/tps51200#samples
footprint TI-DRC10-2400X1650TP_V (SON, 10-Leads, Body 3x3mm, Pitch 0.5mm, Thermal Pad 3x1.65mm)
pins: 1 REFIN (in) "Reference input", 2 VLDOIN (power) "Supply voltage for the LDO", 3 VO (power) "Power output for the LDO", 4 PGND (power) "Power ground output for the LDO", 5 VOSNS (in) "Voltage sense output for the LDO. Connect to positive terminal of the output capacitor or the load.", 6 REFOUT (out) "Reference output. Connect to GND through 0.1-uF ceramic capacitor.", 7 EN (in) "For DDR VTT application, connect EN to SLP_S3. For any other application(s), use EN as the ON/OFF function.", 8 GND (power) "Ground.Signal ground. Connect to negative terminal of the output capacitor.", 9 PGOOD (oc) "PGOOD output. Indicates regulation.", 10 VIN (power) "2.5-V or 3.3-V power supply A ceramic decoupling capacitor with a value between 1-uF and 4.7-uF is required.", 11 EP (power) "Exposed thermal pad"